# Altium schematic symbol library B2405S-2WR3L.SchLib: 1 symbol
Pins are listed as number, name and electrical type; pins without a type are passive.

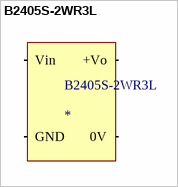
[diagram p0: symbol B2405S-2WR3L]

## B2405S-2WR3L
designator B2405S-2WR3L
pins: 1 Vin (power), 2 GND (power), 4 0V (power), 6 +Vo (power)